# Altium schematic symbol library E-Switch Tactile.SchLib: 1 symbol
Pins are listed as number, name and electrical type; pins without a type are passive.

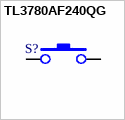
[diagram p0: symbol TL3780AF240QG]

## TL3780AF240QG
designator S?
Tactile Switch SPST-NO Top Actuated Surface Mount; Manufacturer: E-Switch; PartNumber: TL3780AF240QG; Package: SW_TACT_SMT_3.00x2.00mm; PackageDescription: Surface Mount, 3.00mm x 2.00mm, Gull Wing; Supplier 1: Digi-Key; Supplier Part Number 1: EG5393TR-ND
footprint SW_TACT_SMT_3.00x2.00mm (Tact Switch, Surface Mount, 2 Leads, Body 3.00(L) x 2.00(W) x 0.6(H) mm)
pins: 1, 2